# Altium schematic symbol library RF.SchLib: 1 symbol
Pins are listed as number, name and electrical type; pins without a type are passive.

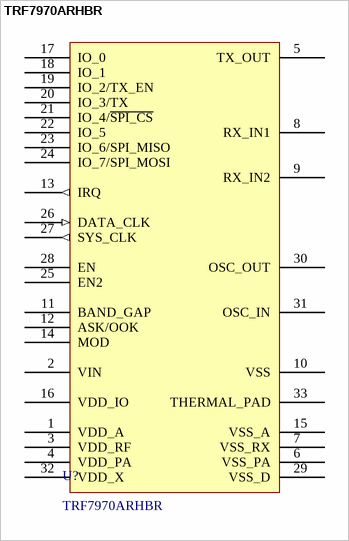
[diagram p0: symbol TRF7970ARHBR]

## TRF7970ARHBR
designator U?
FeliCa,ISO 14443A,ISO 14443B,ISO 15693,ISO 18000-3,ISO 21481,MIFARE,NFC SPI VQFN-32-EP(5x5) RFID, RF Access, Monitoring ICs RoHS; Manufacturer: Texas Instruments; Interface Type: Parrallel, UART, SPI; Operating Frequency: 13.56 MHz; Supply Voltage - Max: 5.5V; Supply Voltage - Min: 2.7 V; ComponentLink1Description: Datasheet; ComponentLink1URL: https://www.ti.com/lit/ds/symlink/trf7970a.pdf?ts=1762763014279&ref_url=https%253A%252F%252Fwww.ti.com%252Fproduct%252FTRF7970A; LCSC Part #: C117004; Manufacturer Part Number: TRF7970ARHBR; Mount: SMD/SMT; Operating Temperature Max: + 110 C; Operating Temperature Min: - 40 C; Package / Case: VQFN-32; Packaging: Tape and Reel; Supplier 1: Mouser; Supplier 1 Part Number: 595-TRF7970ARHBR; Supplier 1 URL: https://www.mouser.vn/ProductDetail/Texas-Instruments/TRF7970ARHBR?qs=4dGAZp5OGt8Af9zmAaD4OQ%3D%3D; Supplier 2: Digi-Key; Supplier 2 Part Number: 296-29355-2-ND; Supplier 2 URL: https://www.digikey.com/en/products/detail/texas-instruments/trf7970arhbr/2728129; Supplier 3: thegioiic; Supplier 3 Part Number: N/A; Supplier 3 URL: N/A; Type: NFC/RFID Tags & Transponders; Value: TRF7970ARHBR
footprint TRF7970ARHBR (QFN, 32-Leads, Body 5.00x5.00mm, Pitch 0.50mm, Thermal Pad 3.50x3.50mm, IPC Medium Density)
pins: 1 VDD_A, 2 VIN, 3 VDD_RF, 4 VDD_PA, 5 TX_OUT, 6 VSS_PA, 7 VSS_RX, 8 RX_IN1, 9 RX_IN2, 10 VSS, 11 BAND_GAP, 12 ASK/OOK, 13 IRQ (out), 14 MOD, 15 VSS_A, 16 VDD_IO, 17 IO_0, 18 IO_1, 19 IO_2/TX_EN, 20 IO_3/TX, 21 IO_4/~{SPI_CS}, 22 IO_5, 23 IO_6/SPI_MISO, 24 IO_7/SPI_MOSI, 25 EN2, 26 DATA_CLK (in), 27 SYS_CLK (out), 28 EN, 29 VSS_D, 30 OSC_OUT, 31 OSC_IN, 32 VDD_X, 33 THERMAL_PAD